# Altium footprint library power_board_evm.PcbLib: 46 footprints (part 1 of 3)
Each footprint in its own frame and in the unit in brackets; x right, y up, seen from the top. Pads: shape width x height; smd on the part's side, far side on the other; paste and mask are expansions set on the pad; w line width, h text height; cw(c..) or ccw(c..) is an arc to the next point about the centre after c.
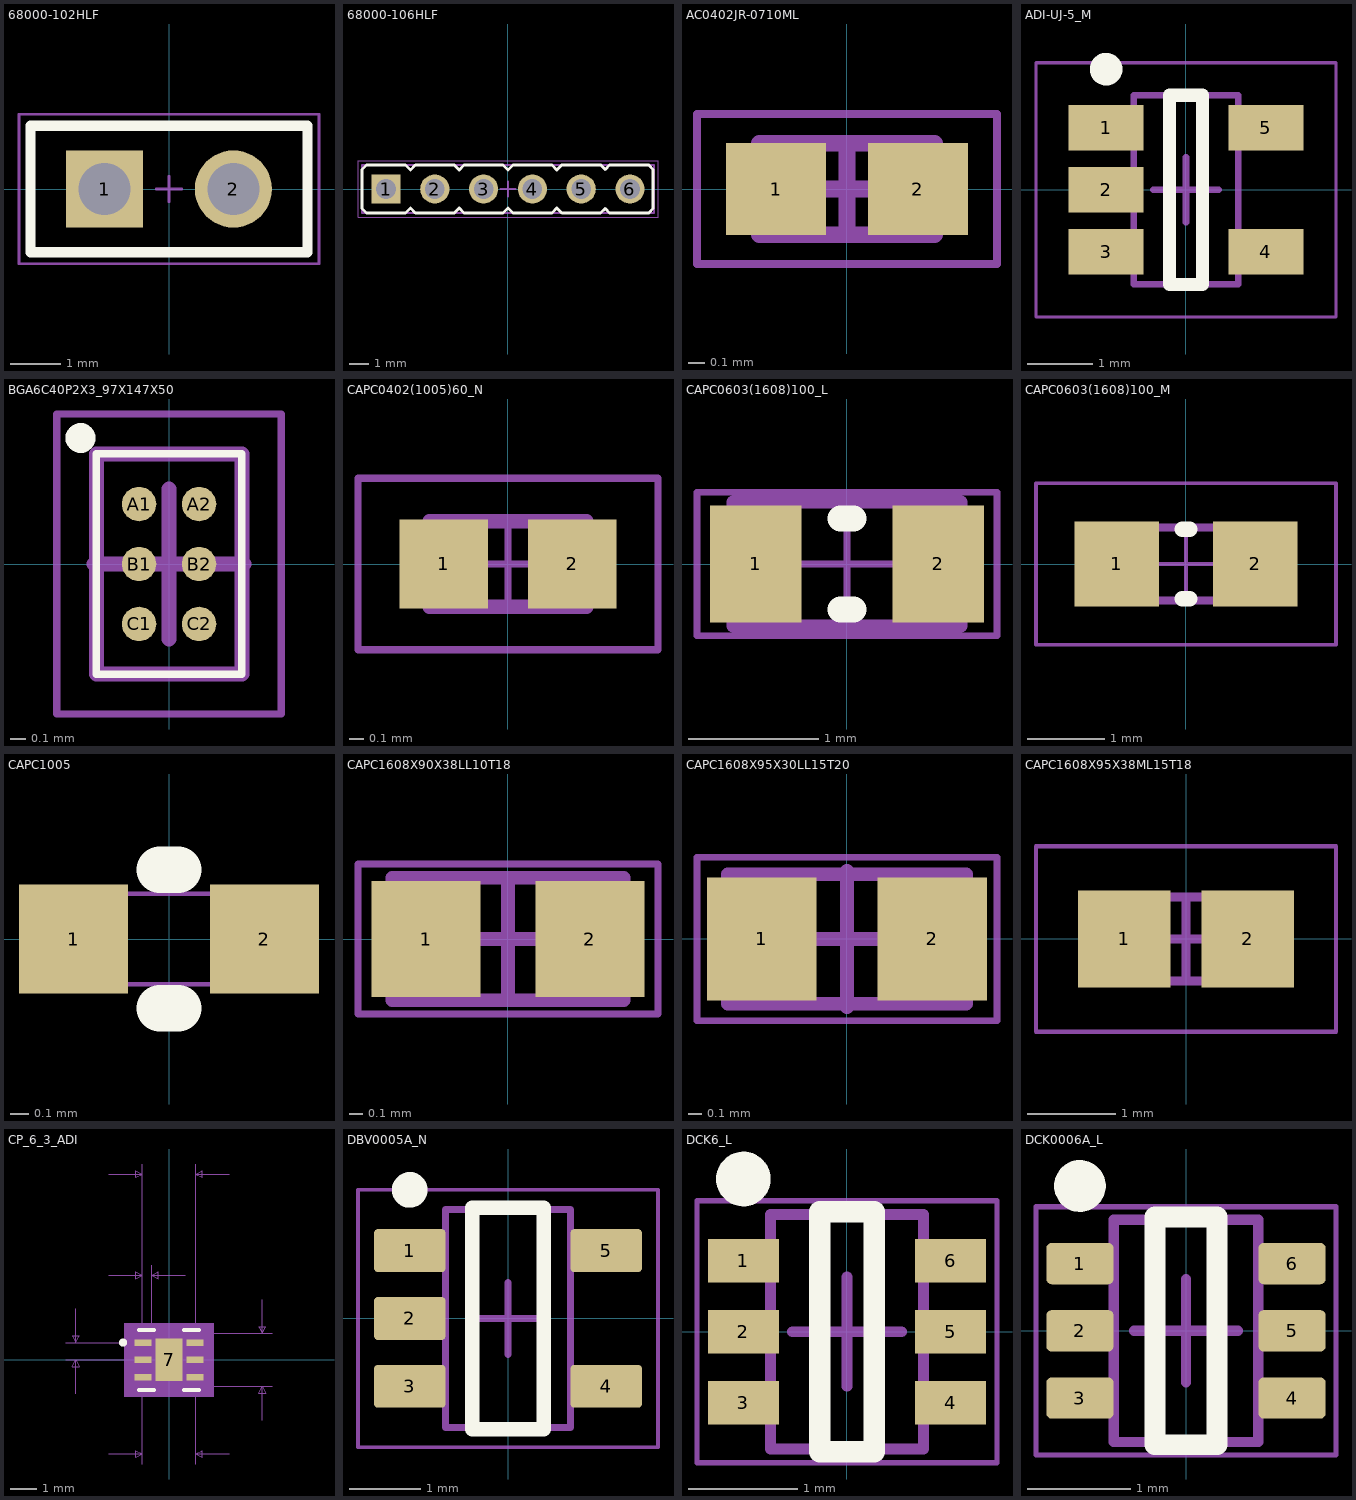
[diagram p0: the footprints below, top view; thin cyan lines are the x and y axes]

## 68000-102HLF [mm]
pads (2):
  rect 1.52x1.52 hole 1.02: 1(-1.27,0)
  round 1.52 hole 1.02: 2(1.27,0)
Top Overlay:
  lines w0.2: -2.73,-1.245 -2.73,1.245 2.73,1.245 2.73,-1.245 -2.73,-1.245
Mechanical 12:
  lines w0.1: -2.73,1.245 -2.73,-1.245 2.73,-1.245 2.73,1.245 -2.73,1.245
Mechanical 15:
  lines w0.05: -0.254,0 0.254,0 ; 0,-0.254 0,0.254 ; -2.955,-1.47 -2.955,1.47 2.955,1.47 2.955,-1.47 -2.955,-1.47
3D body "68000-102HLF.step": height 8.39, standoff -2.4, extent -2.54,-1.206 2.54,1.207

## 68000-106HLF [mm]
pads (6):
  rect 1.52x1.52 hole 1.02: 1(-6.35,0)
  round 1.52 hole 1.02: 2(-3.81,0) 3(-1.27,0) 4(1.27,0) 5(3.81,0) 6(6.35,0)
Top Overlay:
  lines w0.15: -7.6,-1.015 -7.37,-1.245 -5.334,-1.245 -5.08,-0.991 -4.826,-1.245 -2.794,-1.245 -2.54,-0.991 -2.286,-1.245 -0.254,-1.245 0,-0.991 0.254,-1.245 2.286,-1.245 2.54,-0.991 2.803,-1.254 4.821,-1.254 5.06,-1.015 5.29,-1.245 7.326,-1.245 7.556,-1.015 7.556,1.015 7.326,1.245 5.29,1.245 5.06,1.015 4.83,1.245 2.794,1.245 2.54,0.991 2.286,1.245 0.254,1.245 0,0.991 -0.254,1.245 -2.286,1.245 -2.54,0.991 -2.794,1.245 -4.826,1.245 -5.08,0.991 -5.334,1.245 -7.37,1.245 -7.6,1.015 -7.6,-1.015
Mechanical 12:
  lines w0.1: -7.6,-1.245 -7.6,1.245 7.6,1.245 7.6,-1.245 -7.6,-1.245
Mechanical 15:
  lines w0.05: -7.81,-1.47 -7.81,1.47 7.81,1.47 7.81,-1.47 -7.81,-1.47
  lines w0.1: -0.4,0 0.4,0 ; 0,-0.4 0,0.4
3D body "step.step": height 8.39, standoff -2.4, extent -7.62,-1.206 7.62,1.207

## AC0402JR-0710ML [mm]
pads (2):
  rect 0.6x0.55 smd: 1(-0.425,0) 2(0.425,0)
Mechanical 13:
  lines w0.1: -0.525,-0.275 0.525,-0.275 0.525,0.275 -0.525,0.275 -0.525,-0.275
Mechanical 15:
  lines w0.05: -0.9,-0.45 0.9,-0.45 0.9,0.45 -0.9,0.45 -0.9,-0.45
  lines w0.1: -0.275,0 0.275,0 ; 0,-0.275 0,0.275
3D body: height 0.37, standoff 0, extent 0.275,-0.275 0.525,0.275
3D body: height 0.37, standoff 0, extent -0.525,-0.275 -0.275,0.275
3D body: height 0.37, standoff 0, extent -0.275,-0.275 0.275,0.275

## ADI-UJ-5_M [mm]
pads (5):
  rect 1.15x0.7 smd: 1(-1.225,0.95) 2(-1.225,0) 3(-1.225,-0.95) 4(1.225,-0.95) 5(1.225,0.95)
Top Overlay:
  circle w0.25: c-1.225,1.85 r0.125
  lines w0.2: -0.25,-1.45 -0.25,1.45 0.25,1.45 0.25,-1.45 -0.25,-1.45
Mechanical 13:
  lines w0.1: -0.8,-1.45 0.8,-1.45 0.8,1.45 -0.8,1.45 -0.8,-1.45
Mechanical 15:
  lines w0.05: -2.3,-1.95 2.3,-1.95 2.3,1.95 -2.3,1.95 -2.3,-1.95
  lines w0.1: -0.5,0 0.5,0 ; 0,-0.5 0,0.5
3D body: height 1, standoff 0, extent -0.8,-1.45 0.8,1.45

## BGA6C40P2X3_97X147X50 [mm]
pads (6):
  round 0.23 smd: A1(-0.2,0.4) A2(0.2,0.4) B1(-0.2,0) B2(0.2,0) C1(-0.2,-0.4) C2(0.2,-0.4)
Top Overlay:
  circle w0.1: c-0.59,0.84 r0.05
  lines w0.05: -0.485,-0.735 -0.485,0.735 0.485,0.735 0.485,-0.735 -0.485,-0.735
Mechanical 12:
  lines w0.1: -0.485,-0.735 0.485,-0.735 0.485,0.735 -0.485,0.735 -0.485,-0.735
Mechanical 15:
  lines w0.05: -0.75,-1 0.75,-1 0.75,1 -0.75,1 -0.75,-1
  lines w0.1: -0.5,0 0.5,0 ; 0,-0.5 0,0.5
3D body "BGA6C40P2X3_97X147X50.step": height 0.5, standoff 0, extent -0.485,-0.735 0.485,0.735

## CAPC0402(1005)60_N [mm]
pads (2):
  rect 0.62x0.62 smd: 1(-0.45,0) 2(0.45,0)
Mechanical 13:
  lines w0.1: -0.55,-0.3 0.55,-0.3 0.55,0.3 -0.55,0.3 -0.55,-0.3
Mechanical 15:
  lines w0.05: -0.3,0 0.3,0 ; 0,-0.3 0,0.3 ; -1.05,-0.6 1.05,-0.6 1.05,0.6 -1.05,0.6 -1.05,-0.6
3D body: height 0.6, standoff 0, extent 0.3,-0.3 0.55,0.3
3D body: height 0.6, standoff 0, extent -0.55,-0.3 -0.3,0.3
3D body: height 0.6, standoff 0, extent -0.3,-0.3 0.3,0.3

## CAPC0603(1608)100_L [mm]
pads (2):
  rect 0.7x0.9 smd: 1(-0.7,0) 2(0.7,0)
Top Overlay:
  lines w0.2: -0.05,-0.35 0.05,-0.35 ; -0.05,0.35 0.05,0.35
Mechanical 13:
  lines w0.1: -0.875,-0.475 0.875,-0.475 0.875,0.475 -0.875,0.475 -0.875,-0.475
Mechanical 15:
  lines w0.05: -0.475,0 0.475,0 ; 0,-0.475 0,0.475 ; -1.15,-0.55 1.15,-0.55 1.15,0.55 -1.15,0.55 -1.15,-0.55
3D body: height 1, standoff 0, extent 0.525,-0.475 0.875,0.475
3D body: height 1, standoff 0, extent -0.875,-0.475 -0.525,0.475
3D body: height 1, standoff 0, extent -0.525,-0.475 0.525,0.475

## CAPC0603(1608)100_M [mm]
pads (2):
  rect 1.1x1.1 smd: 1(-0.9,0) 2(0.9,0)
Top Overlay:
  lines w0.2: -0.05,-0.45 0.05,-0.45 ; -0.05,0.45 0.05,0.45
Mechanical 13:
  lines w0.1: -0.875,-0.475 0.875,-0.475 0.875,0.475 -0.875,0.475 -0.875,-0.475
Mechanical 15:
  lines w0.05: -0.475,0 0.475,0 ; 0,-0.475 0,0.475 ; -1.95,-1.05 1.95,-1.05 1.95,1.05 -1.95,1.05 -1.95,-1.05
3D body: height 1, standoff 0, extent 0.525,-0.475 0.875,0.475
3D body: height 1, standoff 0, extent -0.875,-0.475 -0.525,0.475
3D body: height 1, standoff 0, extent -0.525,-0.475 0.525,0.475

## CAPC1005 [mm]
pads (2):
  rect 0.6x0.6 smd: 1(-0.525,0) 2(0.525,0)
Top Overlay:
  lines w0.254: -0.051,-0.381 0.051,-0.381 ; -0.051,0.381 0.051,0.381
Mechanical 7:
  lines w0.025: -0.5,-0.25 0.5,-0.25 0.5,0.25 -0.5,0.25 -0.5,-0.25
  text ".Comment" at -0.475,-0.2 h0.14
  text ".Designator" at -0.475,0.075 h0.14
3D body: height 0.2, standoff 0, extent -0.233,-0.299 0.236,0.301
3D body: height 0.2, standoff 0, extent 0.23,-0.3 0.573,0.3
3D body: height 0.2, standoff 0, extent -0.571,-0.301 -0.228,0.299

## CAPC1608X90X38LL10T18 [mm]
pads (2):
  rect 0.8x0.85 smd: 1(-0.6,0) 2(0.6,0)
Mechanical 13:
  lines w0.1: -0.85,-0.45 0.85,-0.45 0.85,0.45 -0.85,0.45 -0.85,-0.45
Mechanical 15:
  lines w0.05: -1.1,-0.55 1.1,-0.55 1.1,0.55 -1.1,0.55 -1.1,-0.55
  lines w0.1: -0.45,0 0.45,0 ; 0,-0.45 0,0.45
3D body "CAPC1608X09L.step": height 0.9, standoff 0, extent -0.85,-0.45 0.85,0.45

## CAPC1608X95X30LL15T20 [mm]
pads (2):
  rect 0.8x0.9 smd: 1(-0.625,0) 2(0.625,0)
Mechanical 13:
  lines w0.1: -0.875,-0.475 -0.875,0.475 0.875,0.475 0.875,-0.475 -0.875,-0.475
Mechanical 15:
  lines w0.05: -1.1,-0.6 -1.1,0.6 1.1,0.6 1.1,-0.6 -1.1,-0.6
  lines w0.1: -0.5,0 0.5,0 ; 0,-0.5 0,0.5
3D body "CAPC1608X09L.step": height 0.95, standoff 0, extent -0.875,-0.475 0.875,0.475

## CAPC1608X95X38ML15T18 [mm]
pads (2):
  rect 1.05x1.1 smd: 1(-0.7,0) 2(0.7,0)
Mechanical 13:
  lines w0.1: -0.875,-0.475 -0.875,0.475 0.875,0.475 0.875,-0.475 -0.875,-0.475
Mechanical 15:
  lines w0.05: -1.7,-1.05 -1.7,1.05 1.7,1.05 1.7,-1.05 -1.7,-1.05
  lines w0.1: -0.475,0 0.475,0 ; 0,-0.475 0,0.475
3D body: height 0.95, standoff 0, extent -0.495,-0.475 0.495,0.475
3D body: height 0.95, standoff 0, extent -0.875,-0.475 -0.495,0.475
3D body: height 0.95, standoff 0, extent 0.495,-0.475 0.875,0.475

## CP_6_3_ADI [mm]
pads (7):
  rect 0.655x0.249 smd paste+0 mask+0: 1(-0.977,0.65) 2(-0.977,0) 3(-0.977,-0.65) 4(0.977,-0.65) 5(0.977,0) 6(0.977,0.65)
  rect 1x1.6 smd paste+0 mask+0: 7(0,0)
Top Overlay:
  circle w0.152: c-1.731,0.65 r0.076
  lines w0.152: -1.127,-1.127 -0.562,-1.127 ; -1.127,1.127 -0.562,1.127 ; 0.562,-1.127 1.127,-1.127 ; 0.562,1.127 1.127,1.127
Top Assembly:
  region: 1.686,-1.381 -1.686,-1.381 -1.686,1.381 1.686,1.381
Mechanical 7:
  lines w0.025: -3.898,0 -0.977,0 ; -3.898,0.65 -0.977,0.65 ; -3.517,-1.27 -3.517,0 ; -3.517,1.92 -3.517,0.65 ; -2.27,-3.54 -1,-3.54 ; -2.27,3.19 -1,3.19 ; -2.27,7 -1,7 ; -1,-3.921 -1,-1 ; -1,3.571 -1,0.65 -1,7.381 ; -0.65,0.65 -0.65,3.571 ; 0.62,3.19 -0.65,3.19 ; 1,-3.921 1,-1 3.898,-1 ; 1,0.65 1,7.381 ; 1,1 3.898,1 ; 2.27,-3.54 1,-3.54 ; 2.27,7 1,7 ; 3.517,-2.27 3.517,-1 ; 3.517,2.27 3.517,1 ; -3.517,0 -3.644,-0.254 -3.39,-0.254 -3.517,0 ; -3.517,0.65 -3.644,0.904 -3.39,0.904 -3.517,0.65 ; -1,-3.54 -1.254,-3.413 -1.254,-3.667 -1,-3.54 ; -1,3.19 -1.254,3.317 -1.254,3.063 -1,3.19 ; -1,7 -1.254,7.127 -1.254,6.873 -1,7 ; -0.65,3.19 -0.396,3.317 -0.396,3.063 -0.65,3.19 ; 1,-3.54 1.254,-3.413 1.254,-3.667 1,-3.54 ; 1,7 1.254,7.127 1.254,6.873 1,7 ; 3.517,-1 3.39,-1.254 3.644,-1.254 3.517,-1 ; 3.517,1 3.39,1.254 3.644,1.254 3.517,1
Mechanical 13:
  lines w0: -0.305,1 ccw(c0,1) 0.305,1
  lines w0.025: -1,-1 1,-1 1,1 -1,1 -1,-1
Mechanical 15:
  region: -1.254,-1.029 -1.559,-1.029 -1.559,1.029 -1.254,1.029 -1.254,1.254 1.254,1.254 1.254,1.029 1.559,1.029 1.559,-1.029 1.254,-1.029 1.254,-1.254 -1.254,-1.254
  lines w0.152: -1.559,-1.029 -1.559,1.029 -1.254,1.029 -1.254,1.254 1.254,1.254 1.254,1.029 1.559,1.029 1.559,-1.029 1.254,-1.029 1.254,-1.254 -1.254,-1.254 -1.254,-1.029 -1.559,-1.029
3D body: height 0.25, standoff 0, extent 0,0 0.254,0.254

## DBV0005A_N [mm]
pads (5):
  rrect17% 1x0.6 smd: 1(-1.375,0.95) 2(-1.375,0) 3(-1.375,-0.95) 4(1.375,-0.95) 5(1.375,0.95)
Top Overlay:
  circle w0.25: c-1.375,1.8 r0.125
  lines w0.2: -0.5,-1.55 0.5,-1.55 0.5,1.55 -0.5,1.55 -0.5,-1.55
Mechanical 1:
  text ".Designator" at -0.635,-0.254 h0.4
Mechanical 13:
  lines w0.1: -0.875,-1.525 -0.875,1.525 0.875,1.525 0.875,-1.525 -0.875,-1.525
Mechanical 15:
  lines w0.05: -2.1,-1.8 -2.1,1.8 2.1,1.8 2.1,-1.8 -2.1,-1.8
  lines w0.1: -0.5,0 0.5,0 ; 0,-0.5 0,0.5
3D body "DBV0005AaksMF05A.stp": height 1.08, standoff -0.01, extent -1.422,-1.461 1.422,1.46

## DCK6_L [mm]
pads (6):
  rect 0.65x0.4 smd: 1(-0.95,0.65) 2(-0.95,0) 3(-0.95,-0.65) 4(0.95,-0.65) 5(0.95,0) 6(0.95,0.65)
Top Overlay:
  circle w0.25: c-0.95,1.4 r0.125
  lines w0.2: -0.25,-1.1 -0.25,1.1 0.25,1.1 0.25,-1.1 -0.25,-1.1
Mechanical 13:
  lines w0.1: -0.7,-1.075 0.7,-1.075 0.7,1.075 -0.7,1.075 -0.7,-1.075
Mechanical 15:
  lines w0.05: -1.375,-1.2 1.375,-1.2 1.375,1.2 -1.375,1.2 -1.375,-1.2
  lines w0.1: -0.5,0 0.5,0 ; 0,-0.5 0,0.5
3D body: height 1.1, standoff 0, extent -0.7,-1.075 0.7,1.075

## DCK0006A_L [mm]
pads (6):
  rrect25% 0.65x0.4 smd: 1(-1.025,0.65) 2(-1.025,0) 3(-1.025,-0.65) 4(1.025,-0.65) 5(1.025,0) 6(1.025,0.65)
Top Overlay:
  circle w0.25: c-1.025,1.4 r0.125
  lines w0.2: -0.3,-1.1 0.3,-1.1 0.3,1.1 -0.3,1.1 -0.3,-1.1
Mechanical 1:
  text ".Designator" at -0.635,-0.127 h0.3
Mechanical 13:
  lines w0.1: -0.7,-1.075 -0.7,1.075 0.7,1.075 0.7,-1.075 -0.7,-1.075
Mechanical 15:
  lines w0.05: -1.45,-1.2 -1.45,1.2 1.45,1.2 1.45,-1.2 -1.45,-1.2
  lines w0.1: -0.5,0 0.5,0 ; 0,-0.5 0,0.5
3D body "DCK0006AakaMAA06.stp": height 0.94, standoff -0.01, extent -1.14,-1 1.14,1